# Altium footprint library fszhang.PcbLib: 279 footprints (part 9 of 18)
Each footprint in its own frame and in the unit in brackets; x right, y up, seen from the top. Pads: shape width x height; smd on the part's side, far side on the other; paste and mask are expansions set on the pad; w line width, h text height; cw(c..) or ccw(c..) is an arc to the next point about the centre after c.
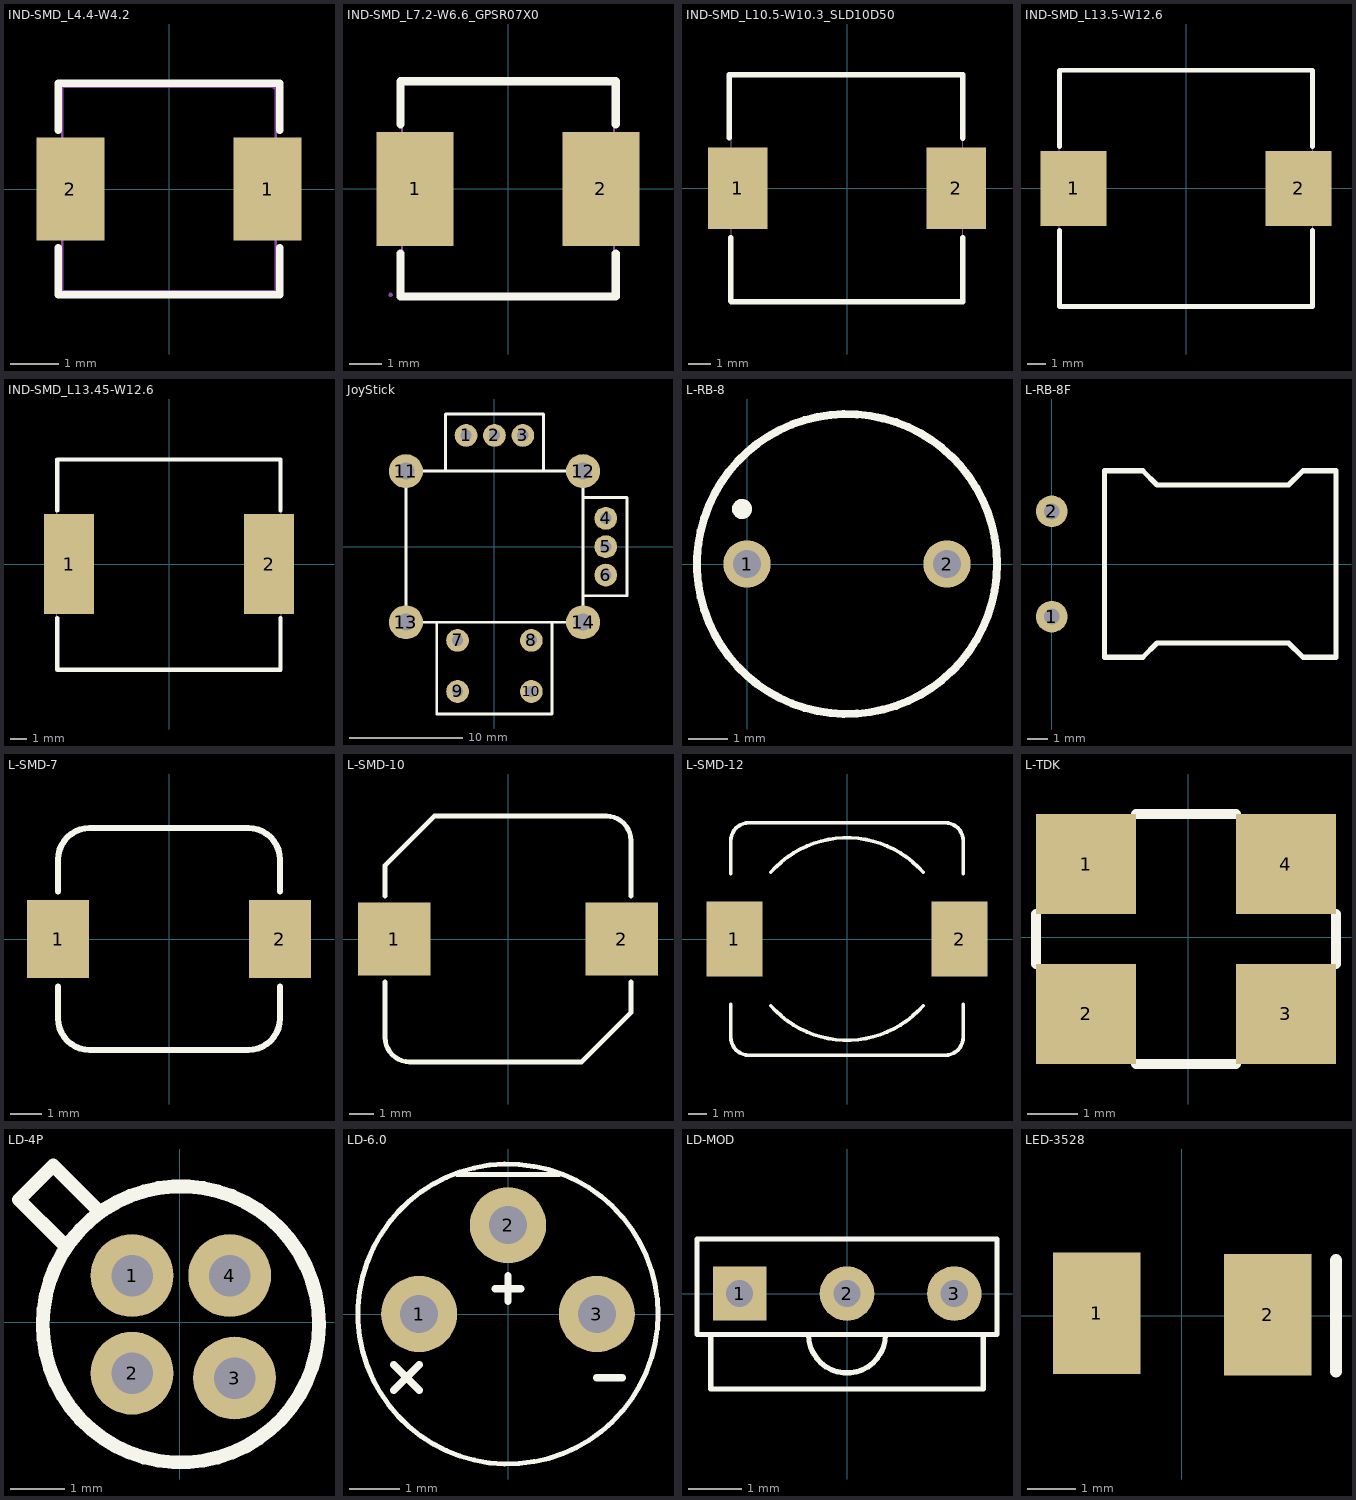
[diagram p8: the footprints below, top view; thin cyan lines are the x and y axes]

## IND-SMD_L4.4-W4.2 [mm]
pads (2):
  rect 1.4x2.12 smd: 1(2.028,0) 2(-2.028,0)
Top Overlay:
  lines w0.152: -2.276,-1.212 -2.276,-2.176 2.276,-2.176 2.276,-1.212 ; -2.276,1.212 -2.276,2.176 2.276,2.176 2.276,1.212
Mechanical 15:
  region: 2.26,2.1 2.26,2.125 2.225,2.16 2.175,2.16 2.14,2.125 2.14,2.1 2.14,2.075 2.175,2.04 2.225,2.04 2.26,2.075 2.26,2.1
  region: 1.4,1 2.2,1 2.2,-1 1.4,-1
  region: -2.2,1 -1.4,1 -1.4,-1 -2.2,-1
  lines w0.051: -2.2,-2.1 -2.2,2.1 2.2,2.1 2.2,-2.1 -2.2,-2.1

## IND-SMD_L7.2-W6.6_GPSR07X0 [mm]
pads (2):
  rect 2.35x3.5 smd: 1(-2.85,0) 2(2.85,0)
Top Overlay:
  lines w0.254: -3.3,-1.981 -3.3,-3.3 3.3,-3.3 3.3,-1.981 ; -3.3,1.981 -3.3,3.3 3.3,3.3 3.3,1.981
Mechanical 15:
  region: -1.9,-1.5 -3.6,-1.5 -3.6,1.5 -1.9,1.5
  region: 1.9,1.5 3.6,1.5 3.6,-1.5 1.9,-1.5
  region: -3.54,-3.25 -3.54,-3.225 -3.575,-3.19 -3.625,-3.19 -3.66,-3.225 -3.66,-3.25 -3.66,-3.275 -3.625,-3.31 -3.575,-3.31 -3.54,-3.275 -3.54,-3.25
  lines w0.051: -3.25,-3.25 -3.25,3.25 3.25,3.25 3.25,-3.25 -3.25,-3.25

## IND-SMD_L10.5-W10.3_SLD10D50 [mm]
pads (2):
  rect 2.7x3.701 smd mask+0.051: 1(-4.95,0) 2(4.95,0)
Top Overlay:
  lines w0.254: -5.334,2.286 -5.334,5.151 -5.25,5.151 5.25,5.151 5.25,2.286 5.25,2.281 ; -5.265,-2.243 -5.265,-5.108 -5.263,-5.11 ; -5.25,-5.151 5.25,-5.151 ; 5.245,-5.118 5.245,-5.113 5.245,-2.248
Mechanical 15:
  region: -5.25,1.501 -4.049,1.501 -4.049,-1.501 -5.25,-1.501
  region: 4.049,1.501 5.25,1.501 5.25,-1.501 4.049,-1.501
  region: -5.189,-5.151 -5.189,-5.126 -5.225,-5.09 -5.275,-5.09 -5.311,-5.126 -5.311,-5.151 -5.311,-5.176 -5.275,-5.212 -5.225,-5.212 -5.189,-5.176 -5.189,-5.151
  lines w0.051: -5.25,-5.151 5.25,-5.151 5.25,5.151 -5.25,5.151 -5.25,-5.151

## IND-SMD_L13.5-W12.6 [mm]
pads (2):
  rect 3.5x4 smd: 1(-6,0) 2(6,0)
Top Overlay:
  lines w0.254: -6.75,-2.23 -6.75,-6.3 6.75,-6.3 6.75,-2.23 ; -6.75,2.23 -6.75,6.3 6.75,6.3 6.75,2.23
Mechanical 15:
  region: -4.75,1.75 -4.75,-1.75 -6.75,-1.75 -6.75,1.75
  region: 6.75,1.75 6.75,-1.75 4.75,-1.75 4.75,1.75
  region: -6.69,-6.3 -6.69,-6.275 -6.725,-6.24 -6.775,-6.24 -6.81,-6.275 -6.81,-6.3 -6.81,-6.325 -6.775,-6.36 -6.725,-6.36 -6.69,-6.325 -6.69,-6.3
  lines w0.051: -6.75,-6.3 6.75,-6.3 6.75,6.3 -6.75,6.3 -6.75,-6.3

## IND-SMD_L13.45-W12.6 [mm]
pads (2):
  rect 3x6 smd: 1(-6,0) 2(6,0)
Top Overlay:
  lines w0.254: -6.71,-3.231 -6.71,-6.33 6.69,-6.33 6.69,-3.231 ; -6.71,3.231 -6.71,6.25 ; -6.71,6.28 6.69,6.28 6.69,3.231
Mechanical 15:
  region: -6.665,6.3 -6.665,6.325 -6.7,6.36 -6.75,6.36 -6.785,6.325 -6.785,6.3 -6.785,6.275 -6.75,6.24 -6.7,6.24 -6.665,6.275 -6.665,6.3
  region: -4.725,-2.5 -6.725,-2.5 -6.725,2.5 -4.725,2.5
  region: 4.725,2.5 6.725,2.5 6.725,-2.5 4.725,-2.5
  lines w0.051: -6.725,-6.3 -6.725,6.3 6.725,6.3 6.725,-6.3 -6.725,-6.3

## JoyStick [mm] "模?"
height 20
pads (14):
  round 2 hole 1: 1(-2.5,9.8) 2(0,9.8) 3(2.5,9.8) 4(9.8,2.5) 5(9.8,0) 6(9.8,-2.5) 7(-3.25,-8.25) 8(3.25,-8.25) 9(-3.25,-12.75) 10(3.25,-12.75)
  round 3 hole 1.5: 11(-7.8,6.65) 12(7.8,6.65) 13(-7.8,-6.65) 14(7.8,-6.65)
Top Overlay:
  lines w0.254: -5.08,-6.65 -5.08,-14.732 5.08,-14.732 5.08,-6.65 ; -4.318,6.65 -4.318,11.684 4.318,11.684 4.318,6.65 ; 7.8,-4.318 11.684,-4.318 11.684,4.318 7.8,4.318 ; -7.8,-6.65 7.8,-6.65 7.8,6.65 -7.8,6.65 -7.8,-6.65

## L-RB-8 [mm] "Inductor"
pads (2):
  round 1.2 hole 0.7: 1(0,0) 2(5.08,0)
Top Overlay:
  circle w0.254: c-0.127,1.397 r0.127
  circle w0.2: c2.54,0 r3.81

## L-RB-8F [mil] "直?"
height 472.44
pads (2):
  round 60 hole 30: 1(0,-100) 2(0,100)
Top Overlay:
  lines w10: 100,-177.17 172.83,-177.17 200,-150 450,-150 477.17,-177.17 540,-177.17 540,177.17 477.17,177.17 450,150 200,150 172.83,177.17 100,177.17 100,-177.17

## L-SMD-7 [mm] "贴片电感7*7"
pads (2):
  rect 2x2.5 smd: 1(-3.556,0) 2(3.556,0)
Top Overlay:
  lines w0.2: -3.556,-1.524 -3.556,-2.54 ccw(c-2.54,-2.54) -2.54,-3.556 2.54,-3.556 ccw(c2.54,-2.54) 3.556,-2.54 3.556,-1.524 ; -3.556,1.524 -3.556,2.54 cw(c-2.54,2.54) -2.54,3.556 2.54,3.556 cw(c2.54,2.54) 3.556,2.54 3.556,1.524
3D body: height 4, standoff 0, extent -3.556,-3.556 3.556,3.556

## L-SMD-10 [mm] "贴片电感10*10"
pads (2):
  rect 3x3 smd: 1(-4.699,0) 2(4.699,0)
Top Overlay:
  lines w0.2: -5.08,-1.778 -5.08,-4.064 ccw(c-4.064,-4.064) -4.064,-5.08 3.048,-5.08 5.08,-3.048 5.08,-1.778 ; -5.08,1.778 -5.08,3.048 -3.048,5.08 4.064,5.08 cw(c4.064,4.064) 5.08,4.064 5.08,1.778
3D body: height 4, standoff 0, extent -5.08,-5.08 5.08,5.08

## L-SMD-12 [mm] "贴片电感12*12"
height 4
pads (2):
  rect 3x4 smd: 1(-6,0) 2(6,0)
Top Overlay:
  lines w0.2: -6.2,-3.475 -6.2,-5.23 ccw(c-5.23,-5.23) -5.23,-6.2 5.23,-6.2 ccw(c5.23,-5.23) 6.2,-5.23 6.2,-3.475 ; -6.2,3.475 -6.2,5.23 cw(c-5.23,5.23) -5.23,6.2 5.23,6.2 cw(c5.23,5.23) 6.2,5.23 6.2,3.475 ; -4.064,-3.556 ccw(c0,0) 4.064,-3.556 ; -4.064,3.556 cw(c0,0) 4.064,3.556
3D body: height 2.5, standoff 0.3, extent -5.273,-5.303 5.315,5.29
3D body: height 0.6, standoff 0, extent -6.198,-6.223 6.198,6.172

## L-TDK [mm]
height 10
pads (4):
  rect 2x2 smd: 1(-2.048,1.46) 2(-2.048,-1.54) 3(1.952,-1.54) 4(1.952,1.46)
Top Overlay:
  lines w0.2: -3.048,-0.54 -3.048,0.46 ; -1.048,-2.54 0.952,-2.54 ; -1.048,2.46 0.952,2.46 ; 2.952,-0.54 2.952,0.46

## LD-4P [mil]
pads (4):
  round 60 hole 30: 1(-34.71,33.93) 2(-34.71,-36.78) 3(39.54,-40.33) 4(35.98,33.92)
Top Overlay:
  circle w10: c0.64,-1.43 r100
  lines w9.84: -84.75,57.04 -116.57,88.86 -91.82,113.61 -60,81.79

## LD-6.0 [mil] "激光直?"
height 511.81
pads (3):
  round 60 hole 30: 1(-70,0) 2(0,70) 3(70,0)
Top Overlay:
  circle w3.94: c0,0 r118.11
  lines w3.94: -40,110 40,110
  lines w5.91: -90,-60 -70,-40 ; -90,-40 -70,-60 ; -10,20 10,20 ; 0,10 0,30 ; 70,-50 90,-50

## LD-MOD [mm] "激光"
height 5
pads (3):
  rect 1x1 hole 0.5: 1(-2,0)
  round 1.016 hole 0.5: 2(0,0)
  round 1.016 hole 0.508: 3(2,0)
Top Overlay:
  lines w0.1: -2.54,-0.762 -2.54,-1.778 2.54,-1.778 2.54,-0.762 ; -0.718,-0.762 ccw(c0,-0.762) 0.718,-0.762 ; -2.794,-0.762 2.794,-0.762 2.794,1.016 -2.794,1.016 -2.794,-0.762

## LED-3528 [mm] "贴片二极管"
height 3
pads (2):
  rect 1.8x2.5 smd: 1(-1.753,0.052) 2(1.772,0.027)
Top Overlay:
  lines w0.254: 3.175,-1.143 3.175,1.143